# Altium schematic symbol library rs485-422_isolated.SchLib: 7 symbols
Pins are listed as number, name and electrical type; pins without a type are passive.

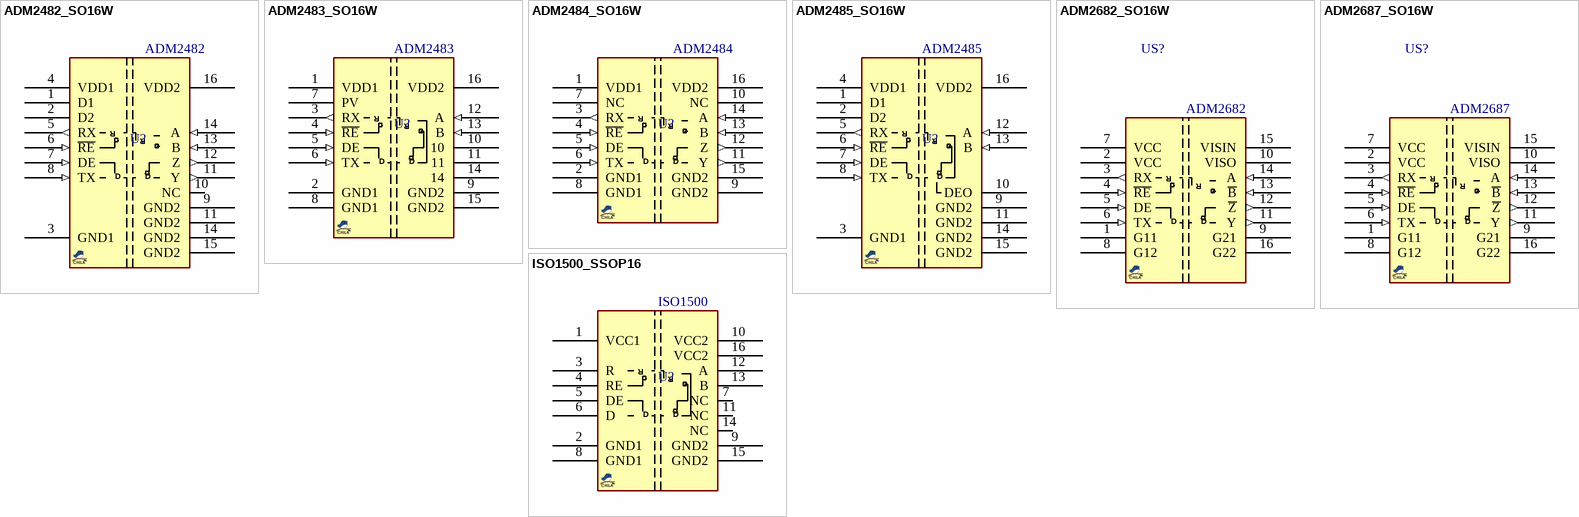
[diagram p0: symbols ADM2482_SO16W to ISO1500_SSOP16]

## ADM2482_SO16W
designator U?, comment ADM2482
RS-485 Transceiver, Isolated, iIntegrated Transformer Driver, 500kbps; MANF: Analog Devices; MANF_P#: ADM2482EBRWZ; PARAM2: 5/3.3 (VDD1); PARAM: 2.5KV Isolating, 500kbps, -40~85°C; PRICE: 7$; VALUE: ADM2482
footprint SO_16_W
pins: 1 D1, 2 D2, 3 GND1, 4 VDD1, 5 RX (out), 6 ~{RE} (in), 7 DE (in), 8 TX (in), 9 GND2, 10 NC, 11 GND2, 11 Y (out), 12 Z (out), 13 B (in), 14 GND2, 14 A (in), 15 GND2, 16 VDD2
text: R; D

## ADM2483_SO16W
designator U?, comment ADM2483
RS-485 Transceiver, Isolated, iCoupler, 16Mbps; MANF: Analog Devices; MANF_P#: ADM2483BRW; PARAM2: 5/3.3 (VDD1); PARAM: 2.5KV Isolating, 16Mbps, -40~85°C; PRICE: 6000toman@JAVAN; VALUE: ADM2483
footprint SO_16_W
pins: 1 VDD1, 2 GND1, 3 RX (out), 4 ~{RE} (in), 5 DE (in), 6 TX (in), 7 PV, 8 GND1, 9 GND2, 10, 11, 12 A (in), 13 B (in), 14, 15 GND2, 16 VDD2
text: R; D

## ADM2484_SO16W
designator U?, comment ADM2484
RS-485 Transceiver, Isolated, iCoupler, Full-Duplex; MANF: Analog Devices; MANF_P#: ADM2484EBRWZ; PARAM2: 5v/3.3v; PARAM: 5KV Isolating, 500kbps, -40~85°C; VALUE: ADM2484
footprint SO_16_W
pins: 1 VDD1, 2 GND1, 3 RX (out), 4 ~{RE} (in), 5 DE (in), 6 TX (in), 7 NC, 8 GND1, 9 GND2, 10 NC, 11 Y (out), 12 Z (out), 13 B (in), 14 A (in), 15 GND2, 16 VDD2
text: R; D

## ADM2485_SO16W
designator U?, comment ADM2485
RS-485 Transceiver, Isolated, iIntegrated Transformer Driver, 16Mbps; MANF: Analog Devices; MANF_P#: ADM2485BRWZ; PARAM2: 5/3.3 (VDD1); PARAM: 2.5KV Isolating, 16Mbps, -40~85°C; PRICE: 22000toman@PAYA; VALUE: ADM2485
footprint SO_16_W
pins: 1 D1, 2 D2, 3 GND1, 4 VDD1, 5 RX (out), 6 ~{RE} (in), 7 DE (in), 8 TX (in), 9 GND2, 10 DEO, 11 GND2, 12 A (in), 13 B (in), 14 GND2, 15 GND2, 16 VDD2
text: R; D

## ADM2682_SO16W
designator US?, comment ADM2682
RS-485 Transceiver, Isolated sig, IsoPOWER; MANF: Analog Devices; DIST#: MOUSER/584-ADM2682EBRIZ; MANF_P#: ADM2682EBRIZ; PARAM2: 5/3.3VCC; PARAM: 16Mbps, -40~85°C; PRICE: 15$; VALUE: ADM2682
footprint SO_16_WL (SOP, SOIC, 7.5mm width, 1.27mm pitch, MS-013-AC, RI-16-2, 16-Lead)
pins: 1 G11, 2 VCC, 3 RX (out), 4 ~{RE} (in), 5 DE (in), 6 TX (in), 7 VCC, 8 G12, 9 G21, 10 VISO, 11 Y (out), 12 ~{Z} (out), 13 ~{B} (in), 14 A (in), 15 VISIN, 16 G22
text: R; D

## ADM2687_SO16W
designator US?, comment ADM2687
RS-485 Transceiver, Isolated sig, IsoPOWER; MANF: Analog Devices; DIST#: MOUSER/584-ADM2682EBRIZ; MANF_P#: ADM2687EBRIZ; PARAM2: 5/3.3VCC; PARAM: 500Kbps, -40~85°C; PRICE: 14$; VALUE: ADM2687
footprint SO_16_WL (SOP, SOIC, 7.5mm width, 1.27mm pitch, MS-013-AC, RI-16-2, 16-Lead)
pins: 1 G11, 2 VCC, 3 RX (out), 4 ~{RE} (in), 5 DE (in), 6 TX (in), 7 VCC, 8 G12, 9 G21, 10 VISO, 11 Y (out), 12 ~{Z} (out), 13 ~{B} (in), 14 A (in), 15 VISIN, 16 G22
text: R; D

## ISO1500_SSOP16
designator U?, comment ISO1500
RS-485 Transceiver, Isolated, 3KVrms, 1Mbps; MANF: Texas Instruments; MANF_P#: ISO1500DBQ; PARAM2: 1.7~5.5VDD1; PARAM: 3KV Isolating, 1Mbps, -40~125°C; PRICE: 6$; VALUE: ISO1500
footprint SO_16_W
pins: 1 VCC1, 2 GND1, 3 R, 4 RE, 5 DE, 6 D, 7 NC, 8 GND1, 9 GND2, 10 VCC2, 11 NC, 12 A, 13 B, 14 NC, 15 GND2, 16 VCC2